# Altium footprint library Elet_pot_2.PcbLib: 30 footprints (part 1 of 2)
Each footprint in its own frame and in the unit in brackets; x right, y up, seen from the top. Pads: shape width x height; smd on the part's side, far side on the other; paste and mask are expansions set on the pad; w line width, h text height; cw(c..) or ccw(c..) is an arc to the next point about the centre after c.
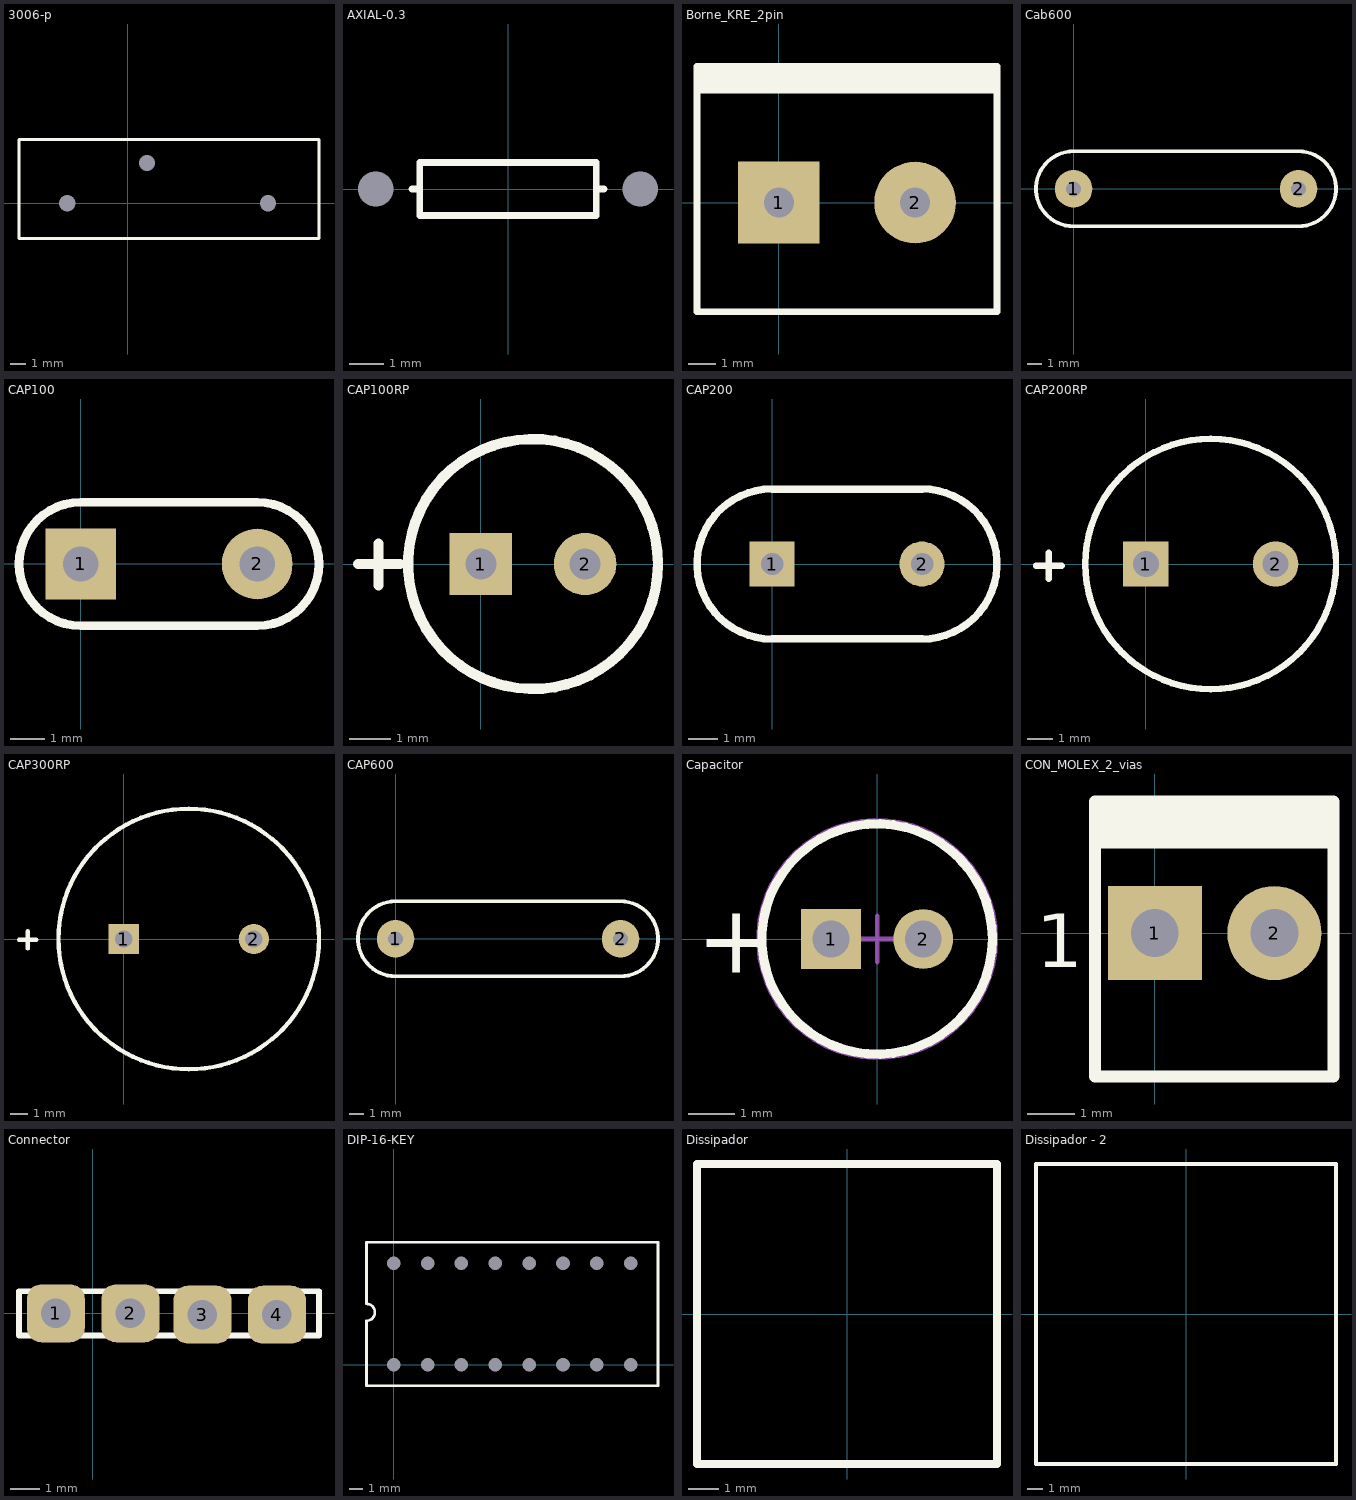
[diagram p0: the footprints below, top view; thin cyan lines are the x and y axes]

## 3006-p [mil] "Trimpot bourns 3006-p three terminals"
height 60
pads (3):
  rrect50% 0x0 / inner rrect50% 0x0 / far side rrect50% 80x80 hole 40: 1(-150,0) 2(47.24,100) 3(346.46,0)
Top Overlay:
  lines w7.87: -269.29,-86.61 472.44,-86.61 472.44,-62.99 472.44,157.48 -269.29,157.48 -269.29,-86.61

## AXIAL-0.3 [mil]
height 60
pads (2):
  rrect50% 0x0 / inner rrect50% 0x0 / far side rrect50% 80x80 hole 40: 1(-150,0) 2(150,0)
Top Overlay:
  lines w7.87: -109,0 -100,0 ; 109,0 100,0 ; 100,0 100,30 -100,30 -100,-30 100,-30 100,0

## Borne_KRE_2pin [mm]
pads (2):
  rect 3x3 hole 1.1: 1(0,0)
  round 3 hole 1.1: 2(5,0)
Top Overlay:
  rectangle: -3,4.15 8,5
  lines w0.254: -3,4.125 8,4.125 ; -1.275,4.125 -1.275,5 ; -3,-4 8,-4 8,5 -3,5 -3,-4

## Cab600 [mil]
pads (2):
  round 100 hole 40: 1(0,0) 2(600,0)
Top Overlay:
  lines w10: 0,-100 cw(c0,0) 0,100 600,100 cw(c600,0) 600,-100 0,-100
Bottom Overlay:
  lines w10: 0,-100.98 cw(c0,-0.98) 0,99.02 600,99.02 cw(c600,-0.98) 600,-100.98 0,-100.98

## CAP100 [mil]
pads (2):
  rect 80x80 hole 40: 1(0,0)
  round 80 hole 40: 2(200,0)
Top Overlay:
  lines w10: 0,-70 cw(c0,0) 0,70 200,70 cw(c200,0) 200,-70 0,-70
Bottom Overlay:
  lines w10: 0,-70 cw(c0,0) 0,70 200,70 cw(c200,0) 200,-70 0,-70

## CAP100RP [mil]
pads (2):
  rect 60x60 hole 30: 1(0,0)
  round 60 hole 30: 2(100,0)
Top Overlay:
  circle w10: c50,0 r120
  lines w10: -118.11,0 -78.11,0 ; -98.42,-20.32 -98.42,19.68
Bottom Overlay:
  circle w10: c50,0 r120
  lines w10: -118.11,0 -78.11,0 ; -98.42,-20.32 -98.42,19.68

## CAP200 [mil]
pads (2):
  rect 60x60 hole 30: 1(0,0)
  round 60 hole 30: 2(200,0)
Top Overlay:
  lines w10: 0,-100 cw(c0,0) 0,100 200,100 cw(c200,0) 200,-100 0,-100
Bottom Overlay:
  lines w10: 0,-100 cw(c0,0) 0,100 200,100 cw(c200,0) 200,-100 0,-100

## CAP200RP [mil]
pads (2):
  rect 70x70 hole 40: 1(0,0)
  round 70 hole 40: 2(200,0)
Top Overlay:
  circle w10: c100,0 r192.91
  lines w10: -169,-3 -129,-3 ; -149,-23 -149,17

## CAP300RP [mil]
pads (2):
  rect 70x70 hole 40: 1(0,0)
  round 70 hole 40: 2(300,0)
Top Overlay:
  circle w10: c150,0 r300
  lines w10: -241,-2 -201,-2 ; -221,-22 -221,18

## CAP600 [mil]
pads (2):
  round 100 hole 40: 1(0,0) 2(600,0)
Top Overlay:
  lines w10: 0,-100 cw(c0,0) 0,100 600,100 cw(c600,0) 600,-100 0,-100
Bottom Overlay:
  lines w10: 0,-100.98 cw(c0,-0.98) 0,99.02 600,99.02 cw(c600,-0.98) 600,-100.98 0,-100.98

## Capacitor [mm]
pads (2):
  rect 1.3x1.3 hole 0.8: 1(-1,0)
  round 1.3 hole 0.8: 2(1,0)
Top Overlay:
  circle w0.2: c0,0 r2.5
  text "+" at -3.908,-0.737 h1.5
Mechanical 13:
  circle w0.1: c0,0 r2.5
Mechanical 15:
  circle w0.05: c0,0 r2.6
  lines w0.1: -0.5,0 0.5,0 ; 0,-0.5 0,0.5
3D body: height 0, standoff -17, extent -1.248,-0.249 -0.75,0.25
3D body: height 0, standoff -14, extent 0.752,-0.249 1.25,0.25
3D body: height 12, standoff 0.01, extent -2.499,-2.499 2.432,2.499
3D body: height 11.89, standoff 0.02, extent -2.449,-2.449 2.449,2.449
3D body: height 12, standoff 0, extent -2,-2 1.999,1.999

## CON_MOLEX_2_vias [mm]
pads (2):
  rect 2x2 hole 1.016: 1(0,0)
  round 2 hole 1.016: 2(2.54,0)
Top Overlay:
  rectangle: -1.275,1.95 3.85,2.8
  lines w0.254: -1.275,2.55 -1.275,-3.05 0.51,-3.05 3.8,-3.05 3.8,2.8 -1.275,2.8 -1.275,1.925 3.8,1.925
  text "1" at -2.525,-0.725 h1.14

## Connector [mm] "Conector 2.54mm"
height 1.524
pads (4):
  rrect50% 2x2 / inner rrect50% 0x0 / far side rrect50% 2.032x2.032 hole 1.016: 1(-1.27,0) 2(1.3,0) 3(3.78,-0.05) 4(6.35,-0.05)
Top Overlay:
  lines w0.2: -2.54,-0.762 7.8,-0.762 7.8,0 7.8,0.762 -2.54,0.762 -2.54,-0.762

## DIP-16-KEY [mil]
pads (16):
  rect 0x0 / inner rect 0x0 / far side rrect50% 80x80 hole 40: 1(0,0)
  round 0 / inner round 0 / far side rrect50% 80x80 hole 40: 2(100,0) 3(200,0) 4(300,0) 5(400,0) 6(500,0) 7(600,0) 8(700,0) 9(700,300) 10(600,300) 11(500,300) 12(400,300) 13(300,300) 14(200,300) 15(100,300) 16(0,300)
Top Overlay:
  lines w7.87: -80.71,179.92 cw(c-80.71,154.92) -80.71,129.92 -80.71,-62.6 780.71,-62.6 780.71,362.21 -80.71,362.21 -80.71,181.1

## Dissipador [mm]
Top Overlay:
  lines w0.254: -5,-5 -5,5 5,5 5,-5 -5,-5

## Dissipador - 2 [mm]
Top Overlay:
  lines w0.254: -10,-10 10,-10 10,10 -10,10 -10,-10